# Altium schematic symbol library IHLP5050FDER1R8M01.SchLib: 2 symbols
Pins are listed as number, name and electrical type; pins without a type are passive.

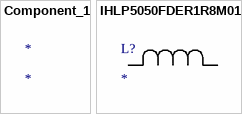
[diagram p0: symbols Component_1 to IHLP5050FDER1R8M01]

## Component_1
designator *

## IHLP5050FDER1R8M01
designator L?
No Description Available; Mfr_Name: Vishay
footprint IND_IHLP_5050_FD_VIS
pins: 1, 2